# Altium footprint library MF_Connectors.PCBLIB: 52 footprints (part 3 of 4)
Each footprint in its own frame and in the unit in brackets; x right, y up, seen from the top. Pads: shape width x height; smd on the part's side, far side on the other; paste and mask are expansions set on the pad; w line width, h text height; cw(c..) or ccw(c..) is an arc to the next point about the centre after c.
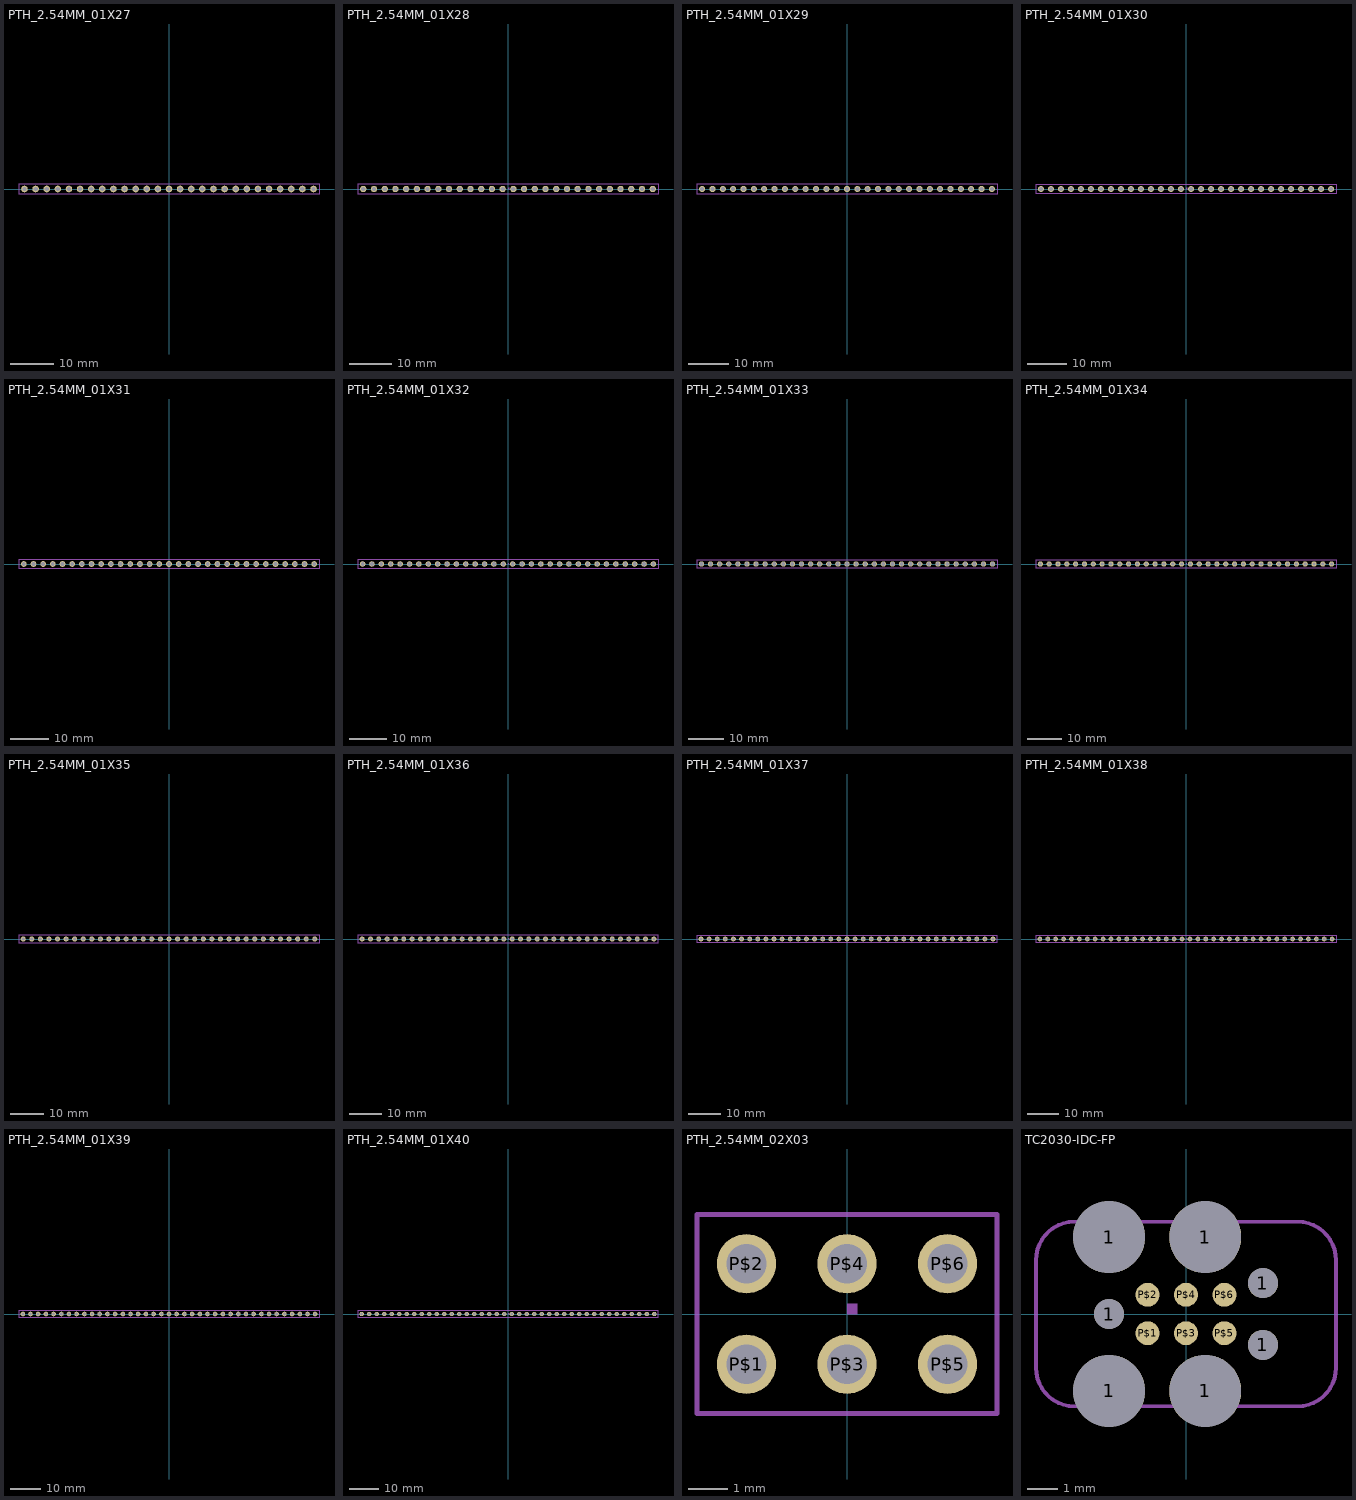
[diagram p2: the footprints below, top view; thin cyan lines are the x and y axes]

## PTH_2.54MM_01X27 [mm]
pads (27):
  round 1.5 / inner round 1.524 / far side round 1.5 hole 1: P$1(-33.02,0) P$2(-30.48,0) P$3(-27.94,0) P$4(-25.4,0) P$5(-22.86,0) P$6(-20.32,0) P$7(-17.78,0) P$8(-15.24,0) P$9(-12.7,0) P$10(-10.16,0) P$11(-7.62,0) P$12(-5.08,0) P$13(-2.54,0) P$14(0,0) P$15(2.54,0) P$16(5.08,0) P$17(7.62,0) P$18(10.16,0) P$19(12.7,0) P$20(15.24,0) P$21(17.78,0) P$22(20.32,0) P$23(22.86,0) P$24(25.4,0) P$25(27.94,0) P$26(30.48,0) P$27(33.02,0)
Mechanical 22:
  region: 0,0 0.254,0 0.254,0.254 0,0.254
  lines w0.127: -34.27,-1.25 34.27,-1.25 34.27,1.25 -34.27,1.25 -34.27,-1.25

## PTH_2.54MM_01X28 [mm]
pads (28):
  round 1.5 / inner round 1.524 / far side round 1.5 hole 1: P$1(-34.29,0) P$2(-31.75,0) P$3(-29.21,0) P$4(-26.67,0) P$5(-24.13,0) P$6(-21.59,0) P$7(-19.05,0) P$8(-16.51,0) P$9(-13.97,0) P$10(-11.43,0) P$11(-8.89,0) P$12(-6.35,0) P$13(-3.81,0) P$14(-1.27,0) P$15(1.27,0) P$16(3.81,0) P$17(6.35,0) P$18(8.89,0) P$19(11.43,0) P$20(13.97,0) P$21(16.51,0) P$22(19.05,0) P$23(21.59,0) P$24(24.13,0) P$25(26.67,0) P$26(29.21,0) P$27(31.75,0) P$28(34.29,0)
Mechanical 22:
  region: 0,0 0.254,0 0.254,0.254 0,0.254
  lines w0.127: -35.54,-1.25 35.54,-1.25 35.54,1.25 -35.54,1.25 -35.54,-1.25

## PTH_2.54MM_01X29 [mm]
pads (29):
  round 1.5 / inner round 1.524 / far side round 1.5 hole 1: P$1(-35.56,0) P$2(-33.02,0) P$3(-30.48,0) P$4(-27.94,0) P$5(-25.4,0) P$6(-22.86,0) P$7(-20.32,0) P$8(-17.78,0) P$9(-15.24,0) P$10(-12.7,0) P$11(-10.16,0) P$12(-7.62,0) P$13(-5.08,0) P$14(-2.54,0) P$15(0,0) P$16(2.54,0) P$17(5.08,0) P$18(7.62,0) P$19(10.16,0) P$20(12.7,0) P$21(15.24,0) P$22(17.78,0) P$23(20.32,0) P$24(22.86,0) P$25(25.4,0) P$26(27.94,0) P$27(30.48,0) P$28(33.02,0) P$29(35.56,0)
Mechanical 22:
  region: 0,0 0.254,0 0.254,0.254 0,0.254
  lines w0.127: -36.81,-1.25 36.81,-1.25 36.81,1.25 -36.81,1.25 -36.81,-1.25

## PTH_2.54MM_01X30 [mm]
pads (30):
  round 1.5 / inner round 1.524 / far side round 1.5 hole 1: P$1(-36.83,0) P$2(-34.29,0) P$3(-31.75,0) P$4(-29.21,0) P$5(-26.67,0) P$6(-24.13,0) P$7(-21.59,0) P$8(-19.05,0) P$9(-16.51,0) P$10(-13.97,0) P$11(-11.43,0) P$12(-8.89,0) P$13(-6.35,0) P$14(-3.81,0) P$15(-1.27,0) P$16(1.27,0) P$17(3.81,0) P$18(6.35,0) P$19(8.89,0) P$20(11.43,0) P$21(13.97,0) P$22(16.51,0) P$23(19.05,0) P$24(21.59,0) P$25(24.13,0) P$26(26.67,0) P$27(29.21,0) P$28(31.75,0) P$29(34.29,0) P$30(36.83,0)
Mechanical 22:
  region: 0,0 0.254,0 0.254,0.254 0,0.254
  lines w0.127: -38.08,-1.25 38.08,-1.25 38.08,1.25 -38.08,1.25 -38.08,-1.25

## PTH_2.54MM_01X31 [mm]
pads (31):
  round 1.5 / inner round 1.524 / far side round 1.5 hole 1: P$1(-38.1,0) P$2(-35.56,0) P$3(-33.02,0) P$4(-30.48,0) P$5(-27.94,0) P$6(-25.4,0) P$7(-22.86,0) P$8(-20.32,0) P$9(-17.78,0) P$10(-15.24,0) P$11(-12.7,0) P$12(-10.16,0) P$13(-7.62,0) P$14(-5.08,0) P$15(-2.54,0) P$16(0,0) P$17(2.54,0) P$18(5.08,0) P$19(7.62,0) P$20(10.16,0) P$21(12.7,0) P$22(15.24,0) P$23(17.78,0) P$24(20.32,0) P$25(22.86,0) P$26(25.4,0) P$27(27.94,0) P$28(30.48,0) P$29(33.02,0) P$30(35.56,0) P$31(38.1,0)
Mechanical 22:
  region: 0,0 0.254,0 0.254,0.254 0,0.254
  lines w0.127: -39.35,-1.25 39.35,-1.25 39.35,1.25 -39.35,1.25 -39.35,-1.25

## PTH_2.54MM_01X32 [mm]
pads (32):
  round 1.5 / inner round 1.524 / far side round 1.5 hole 1: P$1(-39.37,0) P$2(-36.83,0) P$3(-34.29,0) P$4(-31.75,0) P$5(-29.21,0) P$6(-26.67,0) P$7(-24.13,0) P$8(-21.59,0) P$9(-19.05,0) P$10(-16.51,0) P$11(-13.97,0) P$12(-11.43,0) P$13(-8.89,0) P$14(-6.35,0) P$15(-3.81,0) P$16(-1.27,0) P$17(1.27,0) P$18(3.81,0) P$19(6.35,0) P$20(8.89,0) P$21(11.43,0) P$22(13.97,0) P$23(16.51,0) P$24(19.05,0) P$25(21.59,0) P$26(24.13,0) P$27(26.67,0) P$28(29.21,0) P$29(31.75,0) P$30(34.29,0) P$31(36.83,0) P$32(39.37,0)
Mechanical 22:
  region: 0,0 0.254,0 0.254,0.254 0,0.254
  lines w0.127: -40.62,-1.25 40.62,-1.25 40.62,1.25 -40.62,1.25 -40.62,-1.25

## PTH_2.54MM_01X33 [mm]
pads (33):
  round 1.5 / inner round 1.524 / far side round 1.5 hole 1: P$1(-40.64,0) P$2(-38.1,0) P$3(-35.56,0) P$4(-33.02,0) P$5(-30.48,0) P$6(-27.94,0) P$7(-25.4,0) P$8(-22.86,0) P$9(-20.32,0) P$10(-17.78,0) P$11(-15.24,0) P$12(-12.7,0) P$13(-10.16,0) P$14(-7.62,0) P$15(-5.08,0) P$16(-2.54,0) P$17(0,0) P$18(2.54,0) P$19(5.08,0) P$20(7.62,0) P$21(10.16,0) P$22(12.7,0) P$23(15.24,0) P$24(17.78,0) P$25(20.32,0) P$26(22.86,0) P$27(25.4,0) P$28(27.94,0) P$29(30.48,0) P$30(33.02,0) P$31(35.56,0) P$32(38.1,0) P$33(40.64,0)
Mechanical 22:
  region: 0,0 0.254,0 0.254,0.254 0,0.254
  lines w0.127: -41.89,-1.25 41.89,-1.25 41.89,1.25 -41.89,1.25 -41.89,-1.25

## PTH_2.54MM_01X34 [mm]
pads (34):
  round 1.5 / inner round 1.524 / far side round 1.5 hole 1: P$1(-41.91,0) P$2(-39.37,0) P$3(-36.83,0) P$4(-34.29,0) P$5(-31.75,0) P$6(-29.21,0) P$7(-26.67,0) P$8(-24.13,0) P$9(-21.59,0) P$10(-19.05,0) P$11(-16.51,0) P$12(-13.97,0) P$13(-11.43,0) P$14(-8.89,0) P$15(-6.35,0) P$16(-3.81,0) P$17(-1.27,0) P$18(1.27,0) P$19(3.81,0) P$20(6.35,0) P$21(8.89,0) P$22(11.43,0) P$23(13.97,0) P$24(16.51,0) P$25(19.05,0) P$26(21.59,0) P$27(24.13,0) P$28(26.67,0) P$29(29.21,0) P$30(31.75,0) P$31(34.29,0) P$32(36.83,0) P$33(39.37,0) P$34(41.91,0)
Mechanical 22:
  region: 0,0 0.254,0 0.254,0.254 0,0.254
  lines w0.127: -43.16,-1.25 43.16,-1.25 43.16,1.25 -43.16,1.25 -43.16,-1.25

## PTH_2.54MM_01X35 [mm]
pads (35):
  round 1.5 / inner round 1.524 / far side round 1.5 hole 1: P$1(-43.18,0) P$2(-40.64,0) P$3(-38.1,0) P$4(-35.56,0) P$5(-33.02,0) P$6(-30.48,0) P$7(-27.94,0) P$8(-25.4,0) P$9(-22.86,0) P$10(-20.32,0) P$11(-17.78,0) P$12(-15.24,0) P$13(-12.7,0) P$14(-10.16,0) P$15(-7.62,0) P$16(-5.08,0) P$17(-2.54,0) P$18(0,0) P$19(2.54,0) P$20(5.08,0) P$21(7.62,0) P$22(10.16,0) P$23(12.7,0) P$24(15.24,0) P$25(17.78,0) P$26(20.32,0) P$27(22.86,0) P$28(25.4,0) P$29(27.94,0) P$30(30.48,0) P$31(33.02,0) P$32(35.56,0) P$33(38.1,0) P$34(40.64,0) P$35(43.18,0)
Mechanical 22:
  region: 0,0 0.254,0 0.254,0.254 0,0.254
  lines w0.127: -44.43,-1.25 44.43,-1.25 44.43,1.25 -44.43,1.25 -44.43,-1.25

## PTH_2.54MM_01X36 [mm]
pads (36):
  round 1.5 / inner round 1.524 / far side round 1.5 hole 1: P$1(-44.45,0) P$2(-41.91,0) P$3(-39.37,0) P$4(-36.83,0) P$5(-34.29,0) P$6(-31.75,0) P$7(-29.21,0) P$8(-26.67,0) P$9(-24.13,0) P$10(-21.59,0) P$11(-19.05,0) P$12(-16.51,0) P$13(-13.97,0) P$14(-11.43,0) P$15(-8.89,0) P$16(-6.35,0) P$17(-3.81,0) P$18(-1.27,0) P$19(1.27,0) P$20(3.81,0) P$21(6.35,0) P$22(8.89,0) P$23(11.43,0) P$24(13.97,0) P$25(16.51,0) P$26(19.05,0) P$27(21.59,0) P$28(24.13,0) P$29(26.67,0) P$30(29.21,0) P$31(31.75,0) P$32(34.29,0) P$33(36.83,0) P$34(39.37,0) P$35(41.91,0) P$36(44.45,0)
Mechanical 22:
  region: 0,0 0.254,0 0.254,0.254 0,0.254
  lines w0.127: -45.7,-1.25 45.7,-1.25 45.7,1.25 -45.7,1.25 -45.7,-1.25

## PTH_2.54MM_01X37 [mm]
pads (37):
  round 1.5 / inner round 1.524 / far side round 1.5 hole 1: P$1(-45.72,0) P$2(-43.18,0) P$3(-40.64,0) P$4(-38.1,0) P$5(-35.56,0) P$6(-33.02,0) P$7(-30.48,0) P$8(-27.94,0) P$9(-25.4,0) P$10(-22.86,0) P$11(-20.32,0) P$12(-17.78,0) P$13(-15.24,0) P$14(-12.7,0) P$15(-10.16,0) P$16(-7.62,0) P$17(-5.08,0) P$18(-2.54,0) P$19(0,0) P$20(2.54,0) P$21(5.08,0) P$22(7.62,0) P$23(10.16,0) P$24(12.7,0) P$25(15.24,0) P$26(17.78,0) P$27(20.32,0) P$28(22.86,0) P$29(25.4,0) P$30(27.94,0) P$31(30.48,0) P$32(33.02,0) P$33(35.56,0) P$34(38.1,0) P$35(40.64,0) P$36(43.18,0) P$37(45.72,0)
Mechanical 22:
  region: 0,0 0.254,0 0.254,0.254 0,0.254
  lines w0.127: -46.97,-1.25 46.97,-1.25 46.97,1.25 -46.97,1.25 -46.97,-1.25

## PTH_2.54MM_01X38 [mm]
pads (38):
  round 1.5 / inner round 1.524 / far side round 1.5 hole 1: P$1(-46.99,0) P$2(-44.45,0) P$3(-41.91,0) P$4(-39.37,0) P$5(-36.83,0) P$6(-34.29,0) P$7(-31.75,0) P$8(-29.21,0) P$9(-26.67,0) P$10(-24.13,0) P$11(-21.59,0) P$12(-19.05,0) P$13(-16.51,0) P$14(-13.97,0) P$15(-11.43,0) P$16(-8.89,0) P$17(-6.35,0) P$18(-3.81,0) P$19(-1.27,0) P$20(1.27,0) P$21(3.81,0) P$22(6.35,0) P$23(8.89,0) P$24(11.43,0) P$25(13.97,0) P$26(16.51,0) P$27(19.05,0) P$28(21.59,0) P$29(24.13,0) P$30(26.67,0) P$31(29.21,0) P$32(31.75,0) P$33(34.29,0) P$34(36.83,0) P$35(39.37,0) P$36(41.91,0) P$37(44.45,0) P$38(46.99,0)
Mechanical 22:
  region: 0,0 0.254,0 0.254,0.254 0,0.254
  lines w0.127: -48.24,-1.25 48.24,-1.25 48.24,1.25 -48.24,1.25 -48.24,-1.25

## PTH_2.54MM_01X39 [mm]
pads (39):
  round 1.5 / inner round 1.524 / far side round 1.5 hole 1: P$1(-48.26,0) P$2(-45.72,0) P$3(-43.18,0) P$4(-40.64,0) P$5(-38.1,0) P$6(-35.56,0) P$7(-33.02,0) P$8(-30.48,0) P$9(-27.94,0) P$10(-25.4,0) P$11(-22.86,0) P$12(-20.32,0) P$13(-17.78,0) P$14(-15.24,0) P$15(-12.7,0) P$16(-10.16,0) P$17(-7.62,0) P$18(-5.08,0) P$19(-2.54,0) P$20(0,0) P$21(2.54,0) P$22(5.08,0) P$23(7.62,0) P$24(10.16,0) P$25(12.7,0) P$26(15.24,0) P$27(17.78,0) P$28(20.32,0) P$29(22.86,0) P$30(25.4,0) P$31(27.94,0) P$32(30.48,0) P$33(33.02,0) P$34(35.56,0) P$35(38.1,0) P$36(40.64,0) P$37(43.18,0) P$38(45.72,0) P$39(48.26,0)
Mechanical 22:
  region: 0,0 0.254,0 0.254,0.254 0,0.254
  lines w0.127: -49.51,-1.25 49.51,-1.25 49.51,1.25 -49.51,1.25 -49.51,-1.25

## PTH_2.54MM_01X40 [mm]
pads (40):
  round 1.5 / inner round 1.524 / far side round 1.5 hole 1: P$1(-49.53,0) P$2(-46.99,0) P$3(-44.45,0) P$4(-41.91,0) P$5(-39.37,0) P$6(-36.83,0) P$7(-34.29,0) P$8(-31.75,0) P$9(-29.21,0) P$10(-26.67,0) P$11(-24.13,0) P$12(-21.59,0) P$13(-19.05,0) P$14(-16.51,0) P$15(-13.97,0) P$16(-11.43,0) P$17(-8.89,0) P$18(-6.35,0) P$19(-3.81,0) P$20(-1.27,0) P$21(1.27,0) P$22(3.81,0) P$23(6.35,0) P$24(8.89,0) P$25(11.43,0) P$26(13.97,0) P$27(16.51,0) P$28(19.05,0) P$29(21.59,0) P$30(24.13,0) P$31(26.67,0) P$32(29.21,0) P$33(31.75,0) P$34(34.29,0) P$35(36.83,0) P$36(39.37,0) P$37(41.91,0) P$38(44.45,0) P$39(46.99,0) P$40(49.53,0)
Mechanical 22:
  region: 0,0 0.254,0 0.254,0.254 0,0.254
  lines w0.127: -50.78,-1.25 50.78,-1.25 50.78,1.25 -50.78,1.25 -50.78,-1.25

## PTH_2.54MM_02X03 [mm]
pads (6):
  round 1.5 / inner round 1.524 / far side round 1.5 hole 1: P$1(-2.54,-1.27) P$2(-2.54,1.27) P$3(0,-1.27) P$4(0,1.27) P$5(2.54,-1.27) P$6(2.54,1.27)
Mechanical 22:
  region: 0,0 0.254,0 0.254,0.254 0,0.254
  lines w0.127: -3.79,-2.52 3.79,-2.52 3.79,2.52 -3.79,2.52 -3.79,-2.52

## TC2030-IDC-FP [mil]
pads (13):
  round 93.5 hole 93.5 unplated: 1(-100,-100) 1(-100,100) 1(25,-100) 1(25,100)
  round 39 hole 39 unplated: 1(-100,0) 1(100,-40) 1(100,40)
  rrect100% 31x31 smd paste+0: P$1(-50,-25) P$2(-50,25) P$3(0,-25) P$4(0,25) P$5(50,-25) P$6(50,25)
Mechanical 22:
  lines w5: -195,-70 ccw(c-145,-70) -145,-120 145,-120 ccw(c145,-70) 195,-70 195,70 ccw(c145,70) 145,120 -145,120 ccw(c-145,70) -195,70 -195,-70